# Altium schematic symbol library ISO6740FDWR.SchLib: 1 symbol
Pins are listed as number, name and electrical type; pins without a type are passive.

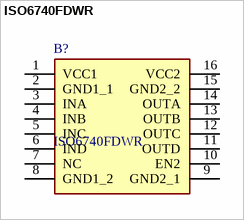
[diagram p0: symbol ISO6740FDWR]

## ISO6740FDWR
designator B?
General-purpose, quad-channel, 4/0 digital isolator; Manufacturer_Name: Texas Instruments; Geometry.Height: 2.65mm; Mouser Part Number: 595-ISO6740FDWR; Mouser Price/Stock: https://www.mouser.co.uk/ProductDetail/Texas-Instruments/ISO6740FDWR?qs=QNEnbhJQKvbxRK10ZtQXeg%3D%3D; Manufacturer_Part_Number: ISO6740FDWR; Datasheet Link: https://www.ti.com/lit/gpn/iso6740
footprint SOIC127P1030X265-16N
pins: 1 VCC1, 2 GND1_1, 3 INA, 4 INB, 5 INC, 6 IND, 7 NC, 8 GND1_2, 9 GND2_1, 10 EN2, 11 OUTD, 12 OUTC, 13 OUTB, 14 OUTA, 15 GND2_2, 16 VCC2